# Altium schematic symbol library Mercury_AD_BaseBoard_SCHLIB.SchLib: 64 symbols
Pins are listed as number, name and electrical type; pins without a type are passive.

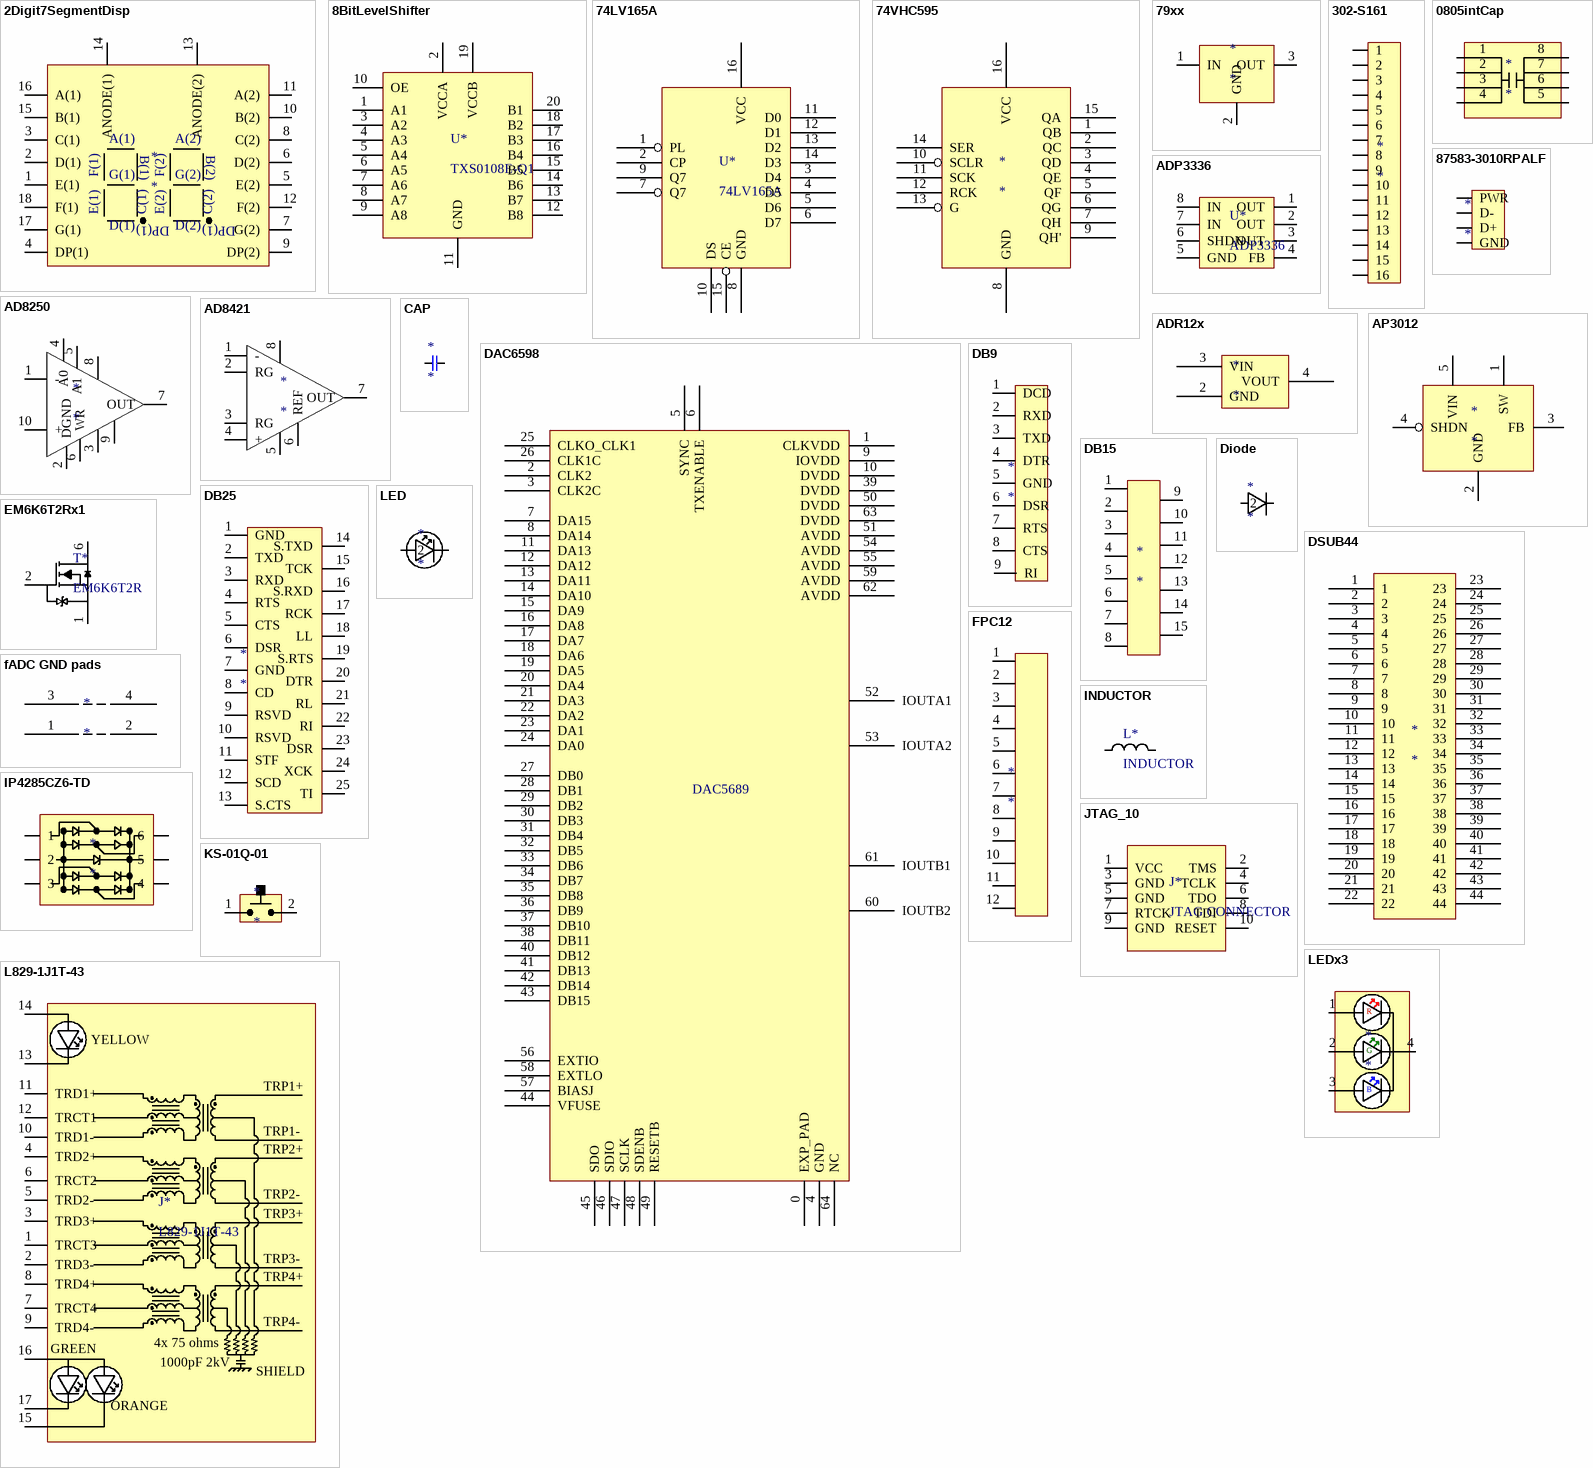
[diagram p0: symbols 2Digit7SegmentDisp to LEDx3]

## 2Digit7SegmentDisp
designator *
footprint 2Digit7SegmentDisp
pins: 1 E(1), 2 D(1), 3 C(1), 4 DP(1), 5 E(2), 6 D(2), 7 G(2), 8 C(2), 9 DP(2), 10 B(2), 11 A(2), 12 F(2), 13 ANODE(2), 14 ANODE(1), 15 B(1), 16 A(1), 17 G(1), 18 F(1)

## 8BitLevelShifter
designator U*, comment TXS0108E-Q1
footprint R-PDSO-G20
pins: 1 A1, 2 VCCA, 3 A2, 4 A3, 5 A4, 6 A5, 7 A6, 8 A7, 9 A8, 10 OE, 11 GND, 12 B8, 13 B7, 14 B6, 15 B5, 16 B4, 17 B3, 18 B2, 19 VCCB, 20 B1

## 74LV165A
designator U*
footprint 16TSSOP
pins: 1 PL, 2 CP, 3 D4, 4 D5, 5 D6, 6 D7, 7 Q7, 8 GND, 9 Q7, 10 DS, 11 D0, 12 D1, 13 D2, 14 D3, 15 CE, 16 VCC

## 74VHC595
designator *
footprint 16TSSOP
pins: 1 QB, 2 QC, 3 QD, 4 QE, 5 QF, 6 QG, 7 QH, 8 GND, 9 QH', 10 SCLR, 11 SCK, 12 RCK, 13 G, 14 SER, 15 QA, 16 VCC

## 79xx
designator *
footprint D2PAK
pins: 1 IN, 2 GND, 3 OUT

## 302-S161
designator *
footprint 302-S161
pins: 1, 2, 3, 4, 5, 6, 7, 8, 9, 10, 11, 12, 13, 14, 15, 16

## 0805intCap
designator *
footprint 0805int
pins: 1, 2, 3, 4, 5, 6, 7, 8

## 87583-3010RPALF
designator *
footprint 87583-3010RPALF
pins: D+, D-, GND, PWR

## AD8250
designator *
footprint 10MSOP
pins: 1 -, 2 DGND, 3 -VS, 4 A0, 5 A1, 6 WR, 7 OUT, 8 +VS, 9 REF, 10 +

## AD8421
designator *
footprint 8SOIC
pins: 1 -, 2 RG, 3 RG, 4 +, 5 -VS, 6 REF, 7 OUT, 8 +VS

## ADP3336
designator U*
footprint 8MSOP_1
pins: 1 OUT, 2 OUT, 3 OUT, 4 FB, 5 GND, 6 SHDN, 7 IN, 8 IN

## ADR12x
designator *
footprint 6TSOT
pins: 2 GND, 3 VIN, 4 VOUT

## AP3012
designator *
footprint TSOT-23
pins: 1 SW, 2 GND, 3 FB, 4 SHDN, 5 VIN

## CAP
designator *
footprint 0603
footprint 0805
footprint 1210
pins: 1, 2

## DAC6598
designator DAC5689  (value not drawn)
footprint 64QFN
pins: 0 EXP_PAD "EXPOSED_PAD", 1 CLKVDD, 2 CLK2, 3 CLK2C "CLK2", 4 GND "CLK2", 5 SYNC "CLK2", 6 TXENABLE "CLK2", 7 DA15 "CLK2", 8 DA14 "CLK2", 9 IOVDD "CLK2", 10 DVDD "CLK2", 11 DA13 "CLK2", 12 DA12 "CLK2", 13 DA11 "CLK2", 14 DA10 "CLK2", 15 DA9 "CLK2", 16 DA8 "CLK2", 17 DA7 "CLK2", 18 DA6 "CLK2", 19 DA5 "CLK2", 20 DA4 "CLK2", 21 DA3 "CLK2", 22 DA2 "CLK2", 23 DA1 "CLK2", 24 DA0 "CLK2", 25 CLKO_CLK1 "CLK2", 26 CLK1C "CLK2", 27 DB0 "CLK2", 28 DB1 "CLK2", 29 DB2 "CLK2", 30 DB3 "CLK2", 31 DB4 "CLK2", 32 DB5 "CLK2", 33 DB6 "CLK2", 34 DB7 "CLK2", 35 DB8 "CLK2", 36 DB9 "CLK2", 37 DB10 "CLK2", 38 DB11 "CLK2", 39 DVDD "CLK2", 40 DB12 "CLK2", 41 DB13 "CLK2", 42 DB14 "CLK2", 43 DB15 "CLK2", 44 VFUSE "CLK2", 45 SDO "CLK2", 46 SDIO "CLK2", 47 SCLK "CLK2", 48 SDENB "CLK2", 49 RESETB "CLK2", 50 DVDD "CLK2", 51 AVDD "CLK2", 52 IOUTA1 "CLK2", 53 IOUTA2 "CLK2", 54 AVDD "CLK2", 55 AVDD "CLK2", 56 EXTIO "CLK2", 57 BIASJ "CLK2", 58 EXTLO "CLK2", 59 AVDD "CLK2", 60 IOUTB2 "CLK2", 61 IOUTB1 "CLK2", 62 AVDD "CLK2", 63 DVDD "CLK2", 64 NC "CLK2"

## DB9
designator *
footprint 9-Pin_D-Connector_SMT
pins: 1 DCD, 2 RXD, 3 TXD, 4 DTR, 5 GND, 6 DSR, 7 RTS, 8 CTS, 9 RI

## DB15
designator *
footprint 15-PIN_D-CONNECTOR
pins: 1 DCD, 2 RXD, 3 TXD, 4 DTR, 5 GND, 6 DSR, 7 RTS, 8 CTS, 9, 10, 11, 12, 13, 14, 15

## DB25
designator *
footprint 25-Pin_D-connector
pins: 1 GND, 2 TXD, 3 RXD, 4 RTS, 5 CTS, 6 DSR, 7 GND, 8 CD, 9 RSVD, 10 RSVD, 11 STF, 12 SCD, 13 S.CTS, 14 S.TXD, 15 TCK, 16 S.RXD, 17 RCK, 18 LL, 19 S.RTS, 20 DTR, 21 RL, 22 RI, 23 DSR, 24 XCK, 25 TI

## Diode
designator *
footprint 0603
footprint 0805
pins: 1, 2

## DSUB44
designator *
footprint 180-M44-213R911
pins: 1, 2, 3, 4, 5, 6, 7, 8, 9, 10, 11, 12, 13, 14, 15, 16, 17, 18, 19, 20, 21, 22, 23, 24, 25, 26, 27, 28, 29, 30, 31, 32, 33, 34, 35, 36, 37, 38, 39, 40, 41, 42, 43, 44

## EM6K6T2Rx1
designator T*, comment EM6K6T2R
pins: 1, 2, 6

## fADC GND pads
designator *
footprint fDAC_GND_conn
footprint FADC_GND_CONN
pins: 1, 2, 3, 4

## FPC12
designator *
footprint FPC12
pins: 1, 2, 3, 4, 5, 6  , 7, 8, 9, 10, 11, 12

## INDUCTOR
designator L*
footprint 0603
footprint 0805
footprint CLS62
footprint CDRH8D28
footprint WE-HCC-INDUCTOR
pins: 1, 2

## IP4285CZ6-TD
designator *
footprint 6-TSOP
pins: 1, 2, 3, 4, 5, 6

## JTAG_10
designator J*, comment JTAG CONNECTOR
footprint 3020-10-0300-00 (10 pin shrouded connector)
pins: 1 VCC, 2 TMS, 3 GND, 4 TCLK, 5 GND, 6 TDO, 7 RTCK, 8 TDI, 9 GND, 10 RESET

## KS-01Q-01
designator *
footprint KS-01Q-01
pins: 1, 2

## L829-1J1T-43
designator J*
footprint L829-1J1T-43
pins: 1 TRCT3, 2 TRD3-, 3 TRD3+, 4 TRD2+, 5 TRD2-, 6 TRCT2, 7 TRCT4, 8 TRD4+, 9 TRD4-, 10 TRD1-, 11 TRD1+, 12 TRCT1, 13, 14, 15, 16, 17
text: YELLOW; TRP1+; TRP1-; TRP2+; TRP2-; TRP3+; TRP3-; TRP4+; TRP4-; 4x 75 ohms; GREEN; 1000pF 2kV; SHIELD; ORANGE

## LED
designator *
footprint 0603diode
pins: 1, 2

## LEDx3
designator *
footprint 0606_RGB_LED
pins: 1 R, 2 G, 3 B, 4

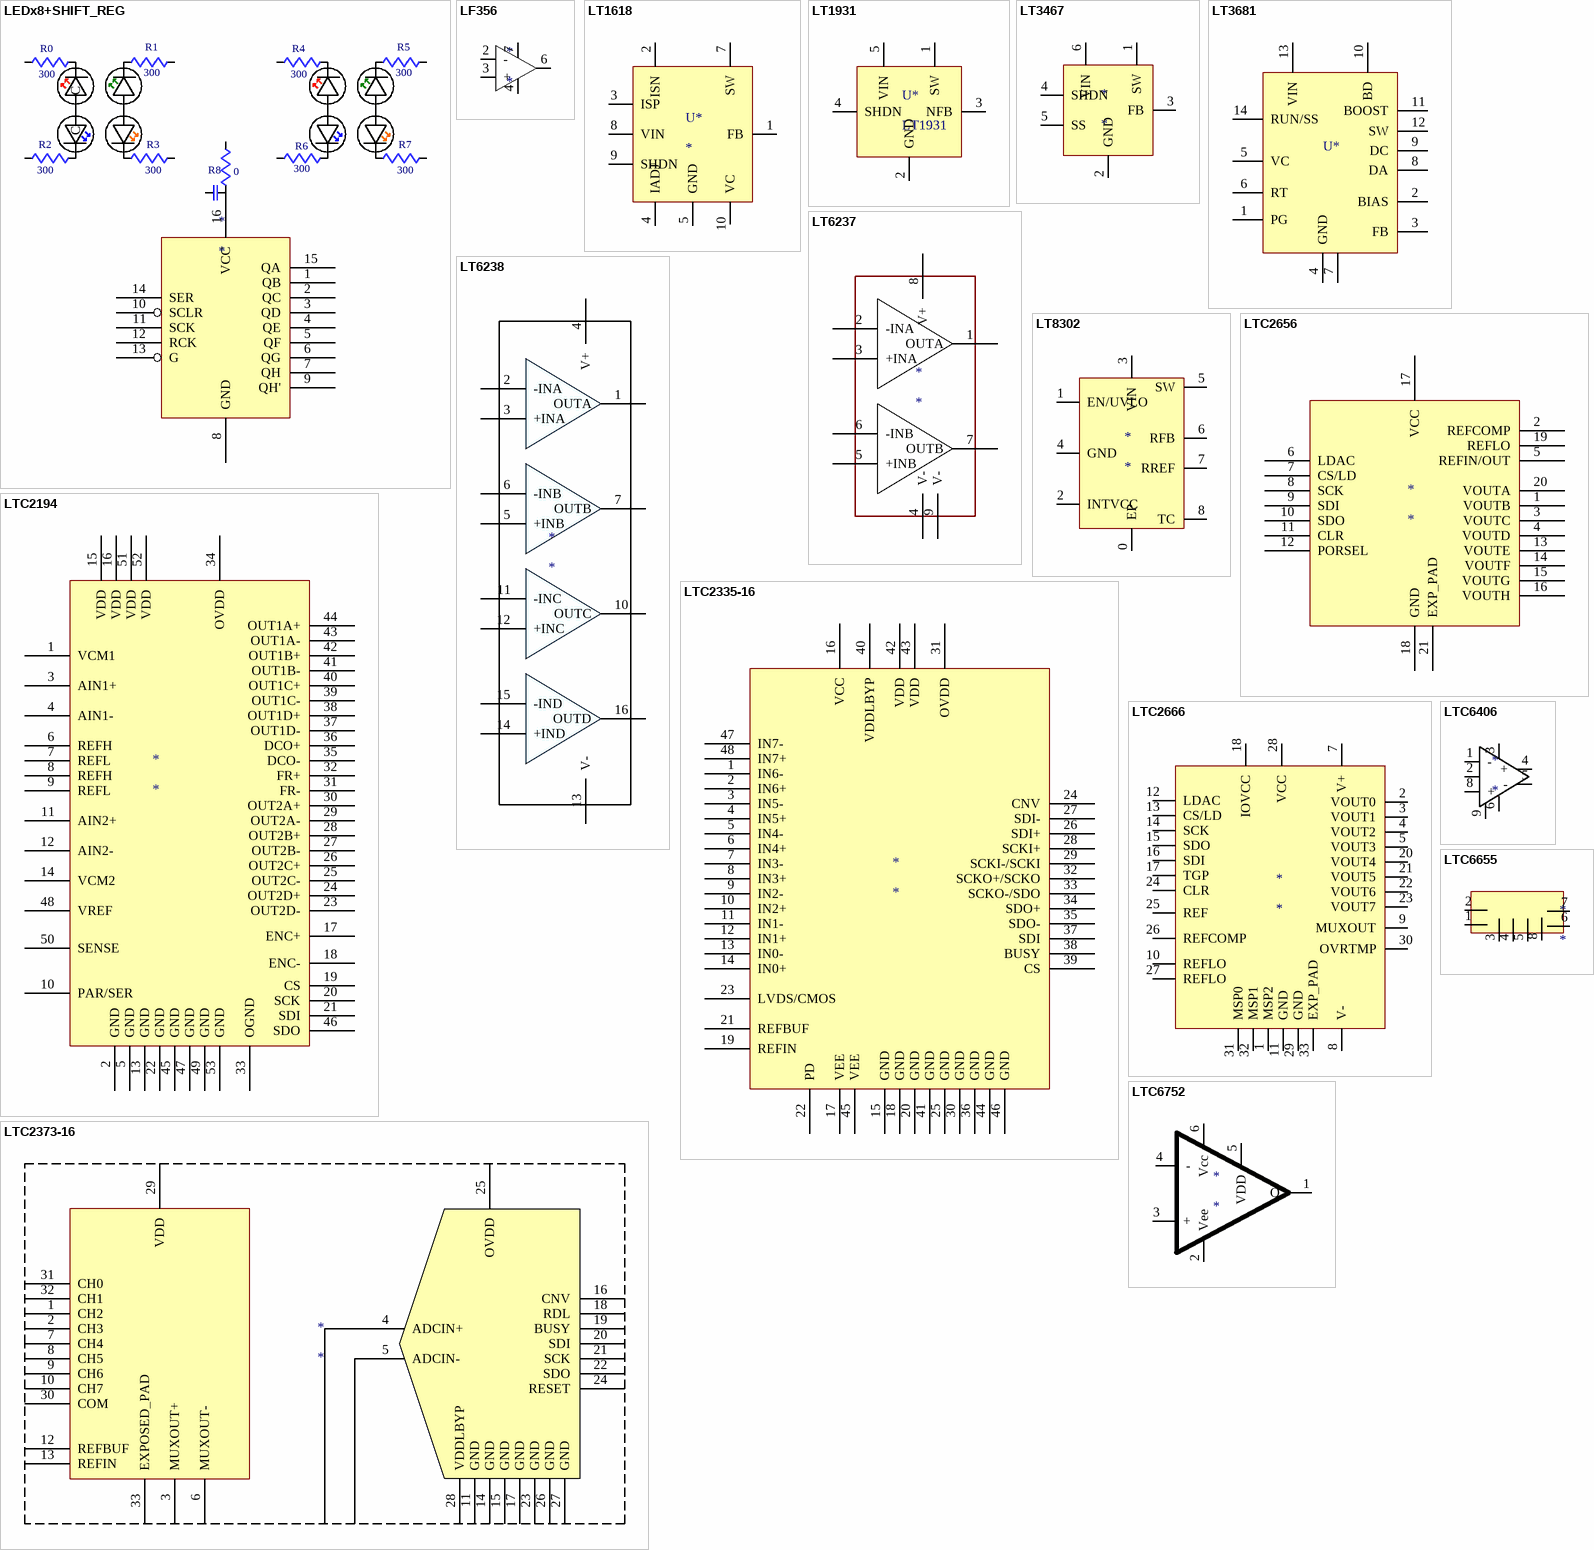
[diagram p1: symbols LEDx8+SHIFT_REG to LTC6752]

## LEDx8+SHIFT_REG
designator *
footprint LEDx8+SHIFT_REG
pins: 1 QB, 2 QC, 3 QD, 4 QE, 5 QF, 6 QG, 7 QH, 8 GND, 9 QH', 10 SCLR, 11 SCK, 12 RCK, 13 G, 14 SER, 15 QA, 16 VCC, 16, 16, 17 A, 17 A, 17 A, 17 A, 17 A, 17 A, 17 A, 17 A, 17, 18, 18 C, 19, 19 C, 20, 20 C, 21, 21 C, 22, 22 C, 23, 23 C, 24, 24 C, 25, 25 C, 26, 27, 28, 29, 30, 31, 32, 33, 34
text: R0; R1; R4; R5; 300; R2; R3; R6; R7; R8; 0

## LF356
designator *
footprint 8SOIC
pins: 2 -, 3 +, 4 V-, 6 OUT, 7 V+

## LT1618
designator U*
footprint 10MSOP
pins: 1 FB, 2 ISN, 3 ISP, 4 IADJ, 5 GND, 7 SW, 8 VIN, 9 SHDN, 10 VC

## LT1931
designator U*
footprint TSOT-23
pins: 1 SW, 2 GND, 3 NFB, 4 SHDN, 5 VIN

## LT3467
designator *
footprint TSOT-23-6
pins: 1 SW, 2 GND, 3 FB, 4 SHDN, 5 SS, 6 VIN

## LT3681
designator U*  (value not drawn)
footprint DE14MA
pins: 1 PG, 2 BIAS, 3 FB, 4 GND, 5 VC, 6 RT, 7 GND, 8 DA, 9 DC, 10 BD, 11 BOOST, 12 SW, 13 VIN, 14 RUN/SS

## LT6237
designator *
footprint 8DFN
pins: 1 OUTA, 2 -INA, 3 +INA, 4 V-, 5 +INB, 6 -INB, 7 OUTB, 8 V+, 9 V-

## LT6238
designator *
footprint 16SSOP
pins: 1 OUTA, 2 -INA, 3 +INA, 4 V+, 5 +INB, 6 -INB, 7 OUTB, 10 OUTC, 11 -INC, 12 +INC, 13 V-, 14 +IND, 15 -IND, 16 OUTD

## LT8302
designator *
footprint S8E
pins: 0 EP, 1 EN/UVLO, 2 INTVCC, 3 VIN, 4 GND, 5 SW, 6 RFB, 7 RREF, 8 TC

## LTC2194
designator *
footprint 52QFN
pins: 1 VCM1, 2 GND, 3 AIN1+, 4 AIN1-, 5 GND, 6 REFH, 7 REFL, 8 REFH, 9 REFL, 10 PAR/SER, 11 AIN2+, 12 AIN2-, 13 GND, 14 VCM2, 15 VDD, 16 VDD, 17 ENC+, 18 ENC-, 19 CS, 20 SCK, 21 SDI, 22 GND, 23 OUT2D-, 24 OUT2D+, 25 OUT2C-, 26 OUT2C+, 27 OUT2B-, 28 OUT2B+, 29 OUT2A-, 30 OUT2A+, 31 FR-, 32 FR+, 33 OGND, 34 OVDD, 35 DCO-, 36 DCO+, 37 OUT1D-, 38 OUT1D+, 39 OUT1C-, 40 OUT1C+, 41 OUT1B-, 42 OUT1B+, 43 OUT1A-, 44 OUT1A+, 45 GND, 46 SDO, 47 GND, 48 VREF, 49 GND, 50 SENSE, 51 VDD, 52 VDD, 53 GND

## LTC2335-16
designator *
footprint 48LQFP
pins: 1 IN6-, 2 IN6+, 3 IN5-, 4 IN5+, 5 IN4-, 6 IN4+, 7 IN3-, 8 IN3+, 9 IN2-, 10 IN2+, 11 IN1-, 12 IN1+, 13 IN0-, 14 IN0+, 15 GND, 16 VCC, 17 VEE, 18 GND, 19 REFIN, 20 GND, 21 REFBUF, 22 PD, 23 LVDS/CMOS, 24 CNV, 25 GND, 26 SDI+, 27 SDI-, 28 SCKI+, 29 SCKI-/SCKI, 30 GND, 31 OVDD, 32 SCKO+/SCKO, 33 SCKO-/SDO, 34 SDO+, 35 SDO-, 36 GND, 37 SDI, 38 BUSY, 39 CS, 40 VDDLBYP, 41 GND, 42 VDD, 43 VDD, 44 GND, 45 VEE, 46 GND, 47 IN7-, 48 IN7+

## LTC2373-16
designator *
footprint 32QFN
pins: 1 CH2, 2 CH3, 3 MUXOUT+, 4 ADCIN+, 5 ADCIN-, 6 MUXOUT-, 7 CH4, 8 CH5, 9 CH6, 10 CH7, 11 GND, 12 REFBUF, 13 REFIN, 14 GND, 15 GND, 16 CNV, 17 GND, 18 RDL, 19 BUSY, 20 SDI, 21 SCK, 22 SDO, 23 GND, 24 RESET, 25 OVDD, 26 GND, 27 GND, 28 VDDLBYP, 29 VDD, 30 COM, 31 CH0, 32 CH1, 33 EXPOSED_PAD

## LTC2656
designator *
footprint 20QFN
pins: 1 VOUTB, 2 REFCOMP, 3 VOUTC, 4 VOUTD, 5 REFIN/OUT, 6 LDAC, 7 CS/LD, 8 SCK, 9 SDI, 10 SDO, 11 CLR, 12 PORSEL, 13 VOUTE, 14 VOUTF, 15 VOUTG, 16 VOUTH, 17 VCC, 18 GND, 19 REFLO, 20 VOUTA, 21 EXP_PAD

## LTC2666
designator *
footprint 32QFN
pins: 1 MSP2, 2 VOUT0, 3 VOUT1, 4 VOUT2, 5 VOUT3, 7 V+, 8 V-, 9 MUXOUT, 10 REFLO, 11 GND, 12 LDAC, 13 CS/LD, 14 SCK, 15 SDO, 16 SDI, 17 TGP, 18 IOVCC, 20 VOUT4, 21 VOUT5, 22 VOUT6, 23 VOUT7, 24 CLR, 25 REF, 26 REFCOMP, 27 REFLO, 28 VCC, 29 GND, 30 OVRTMP, 31 MSP0, 32 MSP1, 33 EXP_PAD

## LTC6406
designator *
footprint 8MSOP
pins: 1 -, 2 VOCM, 3 V+, 4 +, 5 -, 6 V-, 8 +, 9 V-

## LTC6655
designator *
footprint 8MSOP_1
pins: 1 SHDN, 2 VIN, 3 GND, 4 GND, 5 GND, 6 VOUT_S, 7 VOUT_F, 8 GND

## LTC6752
designator *
footprint sc70
pins: 1 Q, 2 Vee, 3 +, 4 -, 5 VDD, 6 Vcc

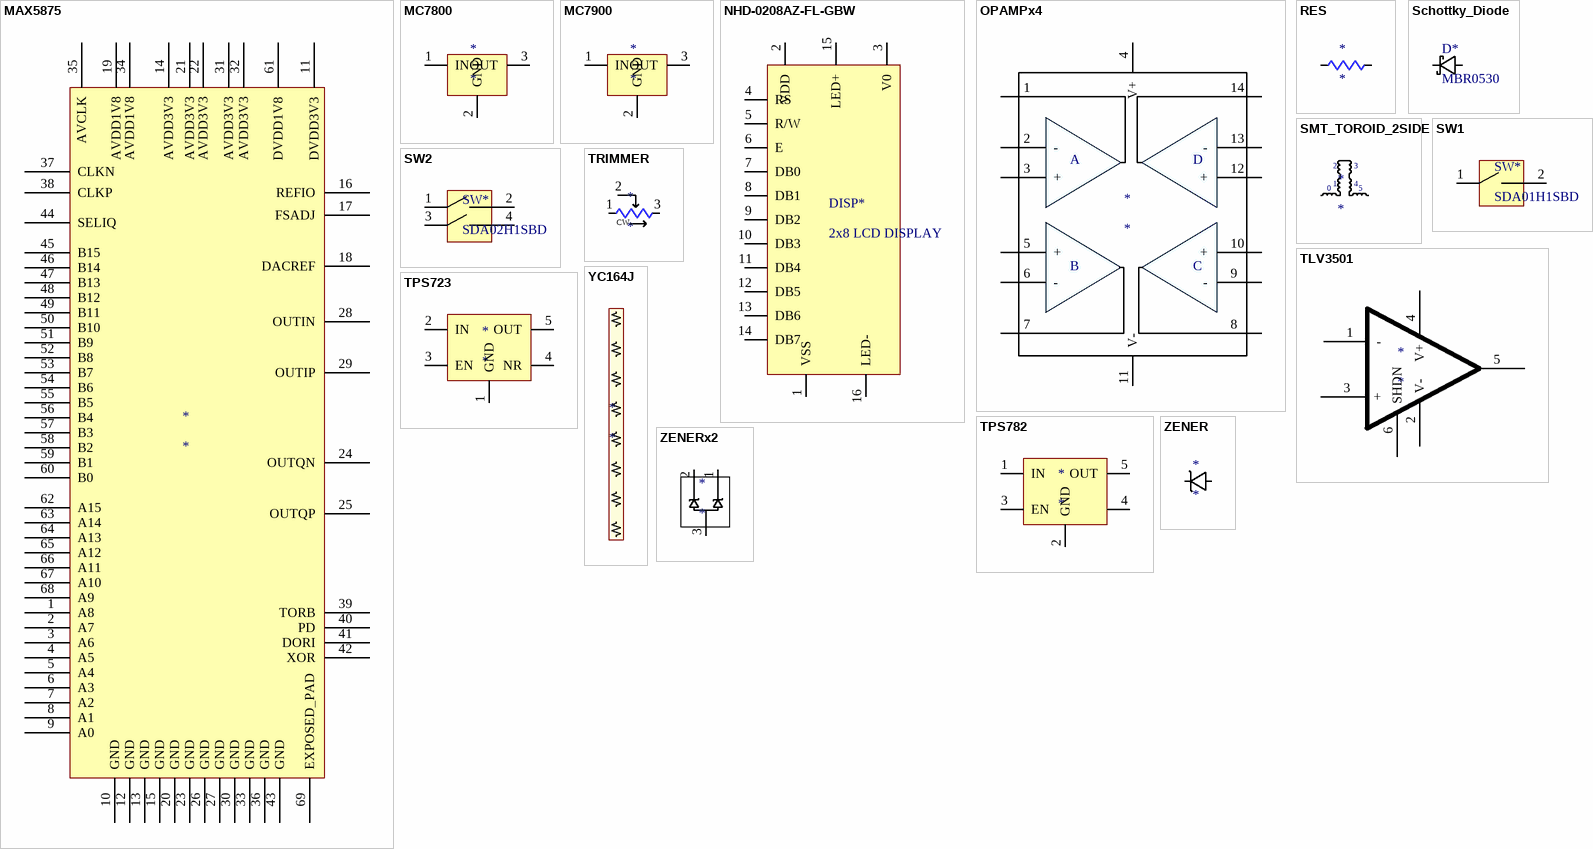
[diagram p2: symbols MAX5875 to ZENERx2]

## MAX5875
designator *
footprint 68LQFN
pins: 1 A8, 2 A7, 3 A6, 4 A5, 5 A4, 6 A3, 7 A2, 8 A1, 9 A0, 10 GND, 11 DVDD3V3, 12 GND, 13 GND, 14 AVDD3V3, 15 GND, 16 REFIO, 17 FSADJ, 18 DACREF, 19 AVDD1V8, 20 GND, 21 AVDD3V3, 22 AVDD3V3, 23 GND, 24 OUTQN, 25 OUTQP, 26 GND, 27 GND, 28 OUTIN, 29 OUTIP, 30 GND, 31 AVDD3V3, 32 AVDD3V3, 33 GND, 34 AVDD1V8, 35 AVCLK, 36 GND, 37 CLKN, 38 CLKP, 39 TORB, 40 PD, 41 DORI, 42 XOR, 43 GND, 44 SELIQ, 45 B15, 46 B14, 47 B13, 48 B12, 49 B11, 50 B10, 51 B9, 52 B8, 53 B7, 54 B6, 55 B5, 56 B4, 57 B3, 58 B2, 59 B1, 60 B0, 61 DVDD1V8, 62 A15, 63 A14, 64 A13, 65 A12, 66 A11, 67 A10, 68 A9, 69 EXPOSED_PAD

## MC7800
designator *
footprint TO-220
pins: 1 IN, 2 GND, 3 OUT

## MC7900
designator *
footprint TO-220
pins: 1 IN, 2 GND, 3 OUT

## NHD-0208AZ-FL-GBW
designator DISP*, comment 2x8 LCD DISPLAY
footprint NHD-0208AZ-FL-GBW (8x2 LCD display)
pins: 1 VSS, 2 VDD, 3 V0, 4 RS, 5 R/W, 6 E, 7 DB0, 8 DB1, 9 DB2, 10 DB3, 11 DB4, 12 DB5, 13 DB6, 14 DB7, 15 LED+, 16 LED-

## OPAMPx4
designator *
footprint 14TSSOP
pins: 1 OUTA, 2 -, 3 +, 4 V+, 5 +, 6 -, 7 OUTB, 8 OUTB, 9 -, 10 +, 11 V-, 12 +, 13 -, 14 OUTA
text: A; D; B; C

## RES
designator *
footprint 0603
footprint 0805
pins: 1, 2

## Schottky_Diode
designator D*, comment MBR0530
footprint SOD123
footprint POWERDI123
footprint MBRM1xx
footprint SOD-923F
pins: 1, 2

## SMT_TOROID_2SIDE
designator *
footprint SMT_TOROID_2SIDE
pins: 1, 2, 2, 3, 3, 4, 4, 5, 5, 6, 6, 7
text: 0

## SW1
designator SW*, comment SDA01H1SBD
footprint SDA01H1SBD
pins: 1, 2

## SW2
designator SW*, comment SDA02H1SBD
footprint SDA02H1SBD
pins: 1, 2, 3, 4

## TLV3501
designator *
footprint 6tsot
pins: 1 -, 2 V-, 3 +, 4 V+, 5, 6 SHDN

## TPS723
designator *
footprint SOT23-5
pins: 1 GND, 2 IN, 3 EN, 4 NR, 5 OUT

## TPS782
designator *
footprint SOT23-5
pins: 1 IN, 2 GND, 3 EN, 4 GND, 5 OUT

## TRIMMER
designator *
footprint 23BR10KLFTR (TRIMMER POTENTIOMETER)
pins: 1, 2, 3
text: CW

## YC164J
designator *
footprint YC164
pins: 1, 2, 3, 4, 5, 6, 7, 8, 9, 10, 11, 12, 13, 14, 15, 16

## ZENER
designator *
footprint SMA_DIODE
pins: 1, 2

## ZENERx2
designator *
footprint SOT-23
pins: 1, 2, 3